# Altium schematic symbol library 3313J-1-102E.SchLib: 1 symbol
Pins are listed as number, name and electrical type; pins without a type are passive.

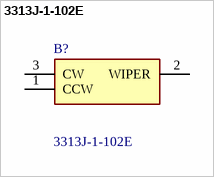
[diagram p0: symbol 3313J-1-102E]

## 3313J-1-102E
designator B?
Bourns 3313J Series SMD Cermet Trimmer Resistor with J-Hook Terminations, 1k +/-20% 1/8W +/-100ppm/C Top Adjust; Geometry.Height: 2.4mm; Manufacturer_Name: Bourns; Manufacturer_Part_Number: 3313J-1-102E; Mouser Part Number: 652-3313J-1-102E; Mouser Price/Stock: https://www.mouser.co.uk/ProductDetail/Bourns/3313J-1-102E?qs=l1PtJIY2wTDEZbKLDT4Xyg%3D%3D; Arrow Part Number: 3313J-1-102E; Arrow Price/Stock: https://www.arrow.com/en/products/3313j-1-102e/bourns?utm_currency=USD&region=nac; Datasheet Link: https://componentsearchengine.com/Datasheets/1/3313J-1-102E.pdf
footprint 3313J1102E
pins: 1 CCW, 2 WIPER, 3 CW